# Altium integrated library Texas Instruments Interface 1394.IntLib: 47 symbols (part 1 of 17)
Pins are listed as number, name and electrical type; pins without a type are passive.

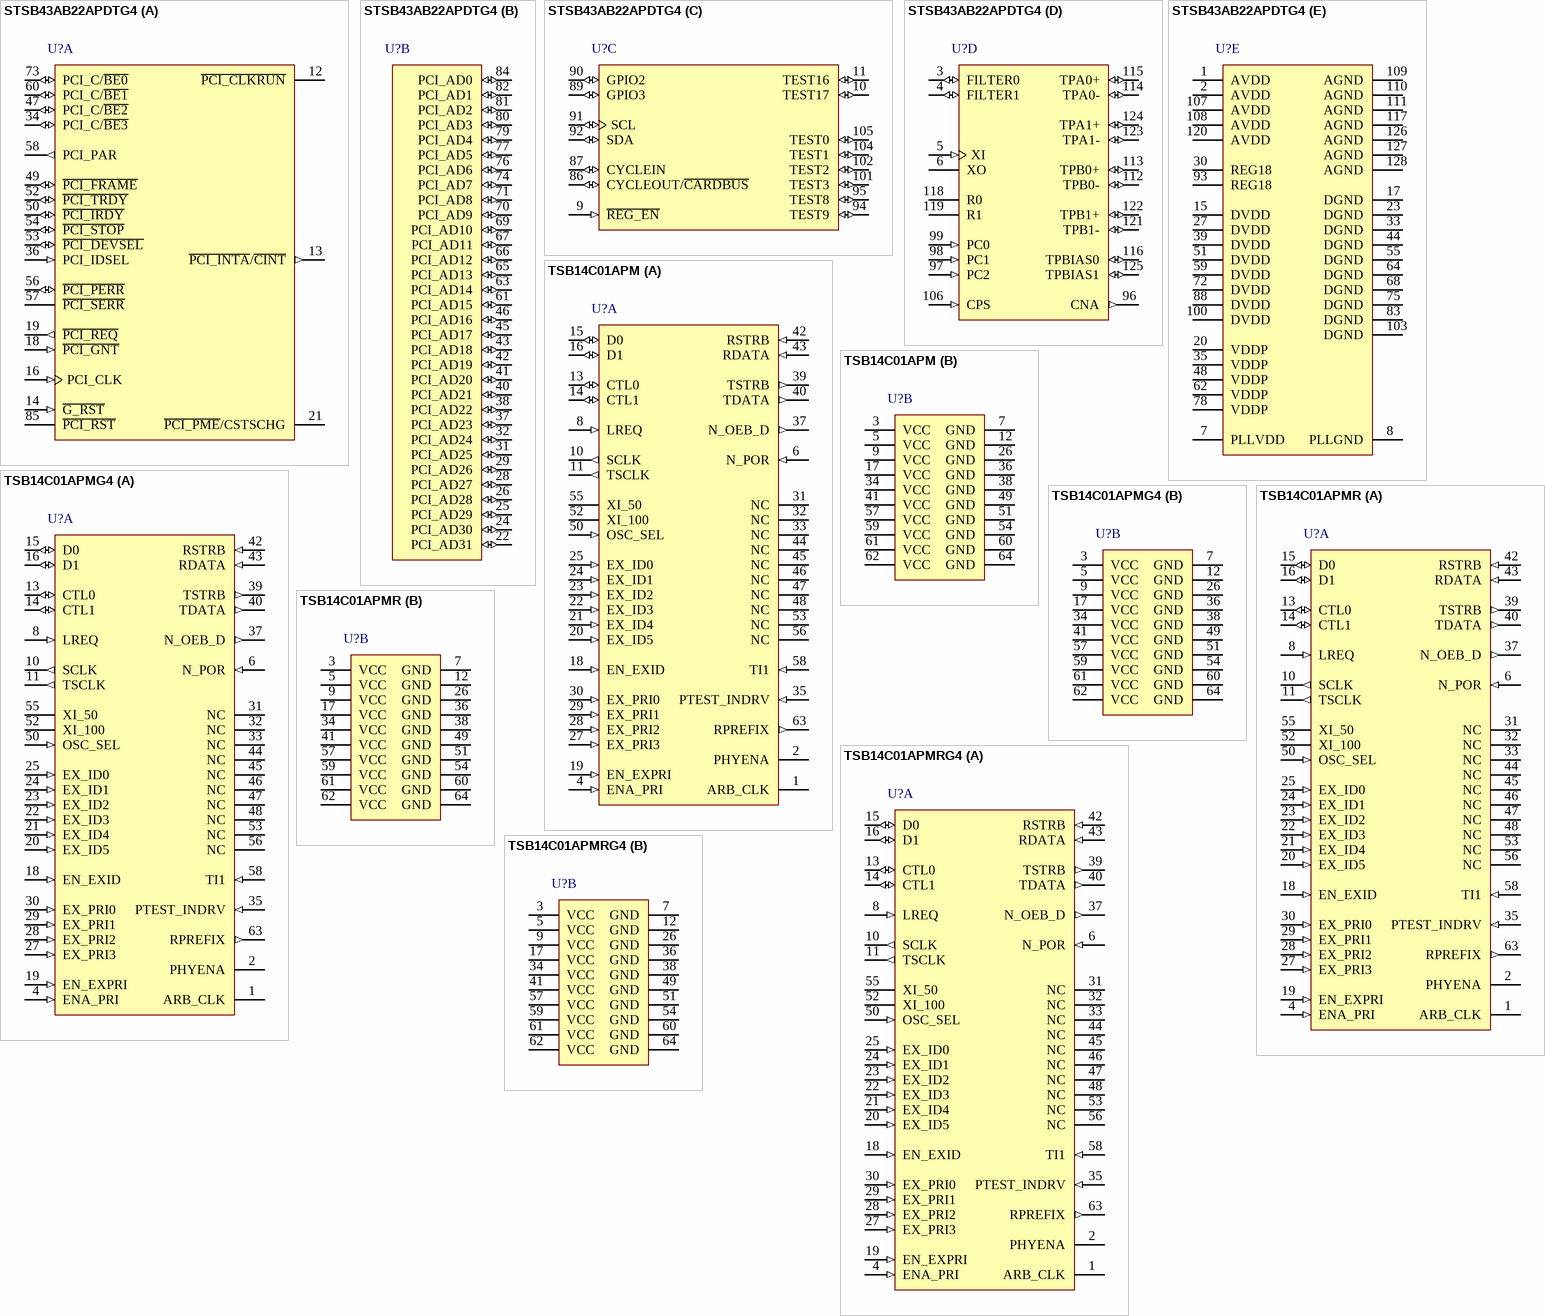
[diagram p0: symbols STSB43AB22APDTG4 to TSB14C01APMRG4]

## STSB43AB22APDTG4
designator U?
Integrated 1394a-2000 OHCI PHY/Link-Layer Controller, 0 to 70 degC, 128-Pin TQFP (PDT); PartNumber: STSB43AB22APDTG4; Manufacturer: Texas Instruments; SubFamily: 1394 Integrated Device; Speed(Max)(Mbps): 400; FIFO(kb): 9; 1394a: TRUE; Rating: Catalog; DatasheetVersion: SLLS520; PackageVersion: revA, Nov-1995; PackageReference: PDT128; PackageDescription: 128-Pin Plastic Quad Flat Pack, 14 x 14 mm Body, 0.4 mm Pitch; Mounting Technology: Surface Mount; Operating Temperature Range(C): 0 to 70; ComponentLink1Description: Datasheet; ComponentLink1URL: http://www.ti.com/general/docs/lit/getliterature.tsp?genericPartNumber=TSB43AB22A&fileType=pdf; ComponentLink2Description: Package Specification; ComponentLink2URL: http://www.ti.com/litv/pdf/mpqf013
footprint TI-PDT128_N (Thin QFP, 128-Leads, Body 14x14mm, Pitch 0.4mm, IPC Medium Density)
footprint TI-PDT128_L (Thin QFP, 128-Leads, Body 14x14mm, Pitch 0.4mm, IPC High Density)
footprint TI-PDT128_M (Thin QFP, 128-Leads, Body 14x14mm, Pitch 0.4mm, IPC Low Density)
part A pins: 12 ~{PCI_CLKRUN} (oc) "Clock run. This terminal provides clock control through the C\L\K\R\U\N\ protocol. [see datasheet]", 13 ~{PCI_INTA}/~{CINT} (out) "Interrupt signal. This output indicates interrupts from the TSB43AB22A device to the host. [see datasheet]", 14 ~{G_RST} (in) "Global power reset. This reset brings all of the TSB43AB22A internal registers to their default states, including those registers not reset by P\C\I\_\R\S\T\. [see datasheet]", 16 PCI_CLK (in) "PCI bus clock. Provides timing for all transactions on the PCI bus. All PCI signals are sampled at the rising edge of PCI_CLK.", 18 ~{PCI_GNT} (in) "PCI bus grant. This signal is driven by the PCI bus arbiter to grant the TSB43AB22A device access to the PCI bus after the current data transaction has completed. [see datasheet]", 19 ~{PCI_REQ} (out) "PCI bus request. Asserted by the TSB43AB22A device to request access to the bus as an initiator. [see datasheet]", 21 ~{PCI_PME}/CSTSCHG (oc) "Power management event or card status change. This terminal indicates wake events to the host. [see datasheet]", 34 PCI_C/~{BE3} (io) "PCI bus commands and byte enables. The command and byte enable signals are multiplexed on the same PCI terminals. [see datasheet]", 36 PCI_IDSEL (in) "Initialization device select. PCI_IDSEL selects the TSB43AB22A device during configuration space accesses. [see datasheet]", 47 PCI_C/~{BE2} (io) "PCI bus commands and byte enables. The command and byte enable signals are multiplexed on the same PCI terminals. [see datasheet]", 49 ~{PCI_FRAME} (io) "PCI cycle frame. This signal is driven by the initiator of a PCI bus cycle. [see datasheet]", 50 ~{PCI_IRDY} (io) "PCI initiator ready. P\C\I\_\I\R\D\Y\ indicates the ability of the PCI bus initiator to complete the current data phase of the transaction. [see datasheet]", 52 ~{PCI_TRDY} (io) "PCI target ready. P\C\I\_\T\R\D\Y\ indicates the ability of the PCI bus target to complete the current data phase of the transaction. [see datasheet]", 53 ~{PCI_DEVSEL} (io) "PCI device select. The TSB43AB22A device asserts this signal to claim a PCI cycle as the target device. [see datasheet]", 54 ~{PCI_STOP} (io) "PCI cycle stop signal. This signal is driven by a PCI target to request the initiator to stop the current PCI bus transaction. [see datasheet]", 56 ~{PCI_PERR} (io) "PCI parity error indicator. [see datasheet]", 57 ~{PCI_SERR} (oc) "PCI system error. When bit 8 (SERR_ENB) in the command register at offset 04h in the PCI configuration space (see Section 3. [see datasheet]", 58 PCI_PAR (out) "PCI parity. In all PCI bus read and write cycles, the TSB43AB22A device calculates even parity across the PCI_AD and PCI_C/B\E\ buses. [see datasheet]", 60 PCI_C/~{BE1} (io) "PCI bus commands and byte enables. The command and byte enable signals are multiplexed on the same PCI terminals. [see datasheet]", 73 PCI_C/~{BE0} (io) "PCI bus commands and byte enables. The command and byte enable signals are multiplexed on the same PCI terminals. [see datasheet]", 85 ~{PCI_RST} (hiz) "PCI reset. [see datasheet]"
part B pins: 22 PCI_AD31 (io) "PCI address/data bus. These signals make up the multiplexed PCI address and data bus on the PCI interface. [see datasheet]", 24 PCI_AD30 (io) "PCI address/data bus. These signals make up the multiplexed PCI address and data bus on the PCI interface. [see datasheet]", 25 PCI_AD29 (io) "PCI address/data bus. These signals make up the multiplexed PCI address and data bus on the PCI interface. [see datasheet]", 26 PCI_AD28 (io) "PCI address/data bus. These signals make up the multiplexed PCI address and data bus on the PCI interface. [see datasheet]", 28 PCI_AD27 (io) "PCI address/data bus. These signals make up the multiplexed PCI address and data bus on the PCI interface. [see datasheet]", 29 PCI_AD26 (io) "PCI address/data bus. These signals make up the multiplexed PCI address and data bus on the PCI interface. [see datasheet]", 31 PCI_AD25 (io) "PCI address/data bus. These signals make up the multiplexed PCI address and data bus on the PCI interface. [see datasheet]", 32 PCI_AD24 (io) "PCI address/data bus. These signals make up the multiplexed PCI address and data bus on the PCI interface. [see datasheet]", 37 PCI_AD23 (io) "PCI address/data bus. These signals make up the multiplexed PCI address and data bus on the PCI interface. [see datasheet]", 38 PCI_AD22 (io) "PCI address/data bus. These signals make up the multiplexed PCI address and data bus on the PCI interface. [see datasheet]", 40 PCI_AD21 (io) "PCI address/data bus. These signals make up the multiplexed PCI address and data bus on the PCI interface. [see datasheet]", 41 PCI_AD20 (io) "PCI address/data bus. These signals make up the multiplexed PCI address and data bus on the PCI interface. [see datasheet]", 42 PCI_AD19 (io) "PCI address/data bus. These signals make up the multiplexed PCI address and data bus on the PCI interface. [see datasheet]", 43 PCI_AD18 (io) "PCI address/data bus. These signals make up the multiplexed PCI address and data bus on the PCI interface. [see datasheet]", 45 PCI_AD17 (io) "PCI address/data bus. These signals make up the multiplexed PCI address and data bus on the PCI interface. [see datasheet]", 46 PCI_AD16 (io) "PCI address/data bus. These signals make up the multiplexed PCI address and data bus on the PCI interface. [see datasheet]", 61 PCI_AD15 (io) "PCI address/data bus. These signals make up the multiplexed PCI address and data bus on the PCI interface. [see datasheet]", 63 PCI_AD14 (io) "PCI address/data bus. These signals make up the multiplexed PCI address and data bus on the PCI interface. [see datasheet]", 65 PCI_AD13 (io) "PCI address/data bus. These signals make up the multiplexed PCI address and data bus on the PCI interface. [see datasheet]", 66 PCI_AD12 (io) "PCI address/data bus. These signals make up the multiplexed PCI address and data bus on the PCI interface. [see datasheet]", 67 PCI_AD11 (io) "PCI address/data bus. These signals make up the multiplexed PCI address and data bus on the PCI interface. [see datasheet]", 69 PCI_AD10 (io) "PCI address/data bus. These signals make up the multiplexed PCI address and data bus on the PCI interface. [see datasheet]", 70 PCI_AD9 (io) "PCI address/data bus. These signals make up the multiplexed PCI address and data bus on the PCI interface. [see datasheet]", 71 PCI_AD8 (io) "PCI address/data bus. These signals make up the multiplexed PCI address and data bus on the PCI interface. [see datasheet]", 74 PCI_AD7 (io) "PCI address/data bus. These signals make up the multiplexed PCI address and data bus on the PCI interface. [see datasheet]", 76 PCI_AD6 (io) "PCI address/data bus. These signals make up the multiplexed PCI address and data bus on the PCI interface. [see datasheet]", 77 PCI_AD5 (io) "PCI address/data bus. These signals make up the multiplexed PCI address and data bus on the PCI interface. [see datasheet]", 79 PCI_AD4 (io) "PCI address/data bus. These signals make up the multiplexed PCI address and data bus on the PCI interface. [see datasheet]", 80 PCI_AD3 (io) "PCI address/data bus. These signals make up the multiplexed PCI address and data bus on the PCI interface. [see datasheet]", 81 PCI_AD2 (io) "PCI address/data bus. These signals make up the multiplexed PCI address and data bus on the PCI interface. [see datasheet]", 82 PCI_AD1 (io) "PCI address/data bus. These signals make up the multiplexed PCI address and data bus on the PCI interface. [see datasheet]", 84 PCI_AD0 (io) "PCI address/data bus. These signals make up the multiplexed PCI address and data bus on the PCI interface. [see datasheet]"
part C pins: 9 ~{REG_EN} (in) "Regulator enable. This terminal must be tied to ground to enable the internal voltage regulator. When using a single 3. [see datasheet]", 10 TEST17 (io) "Terminals TEST[9, 8, 3, 2, 1, 0] are used for factory test of the TSB43AB22A device and must be connected to ground for normal operation. Terminal TEST[17:16] must be pulled to VDD. [see datasheet]", 11 TEST16 (io) "Terminals TEST[9, 8, 3, 2, 1, 0] are used for factory test of the TSB43AB22A device and must be connected to ground for normal operation. Terminal TEST[17:16] must be pulled to VDD. [see datasheet]", 86 CYCLEOUT/~{CARDBUS} (io) "This terminal is sampled when G\_\R\S\T\ is asserted and is used to select between PC Card and non-PC Card implementations. [see datasheet]", 87 CYCLEIN (io) "The CYCLEIN terminal allows an external 8-kHz clock to be used as a cycle timer for synchronization with other system devices. [see datasheet]", 89 GPIO3 (io) "General-purpose I/O [3]. This terminal defaults as an input and if it is not implemented, it is recommended that it be pulled low to ground with a 220-ohm resistor.", 90 GPIO2 (io) "General-purpose I/O [2]. This terminal defaults as an input and if it is not implemented, it is recommended that it be pulled low to ground with a 220-ohm resistor.", 91 SCL (io) "Serial clock. This terminal provides the serial clock signaling and is implemented as open-drain. [see datasheet]", 92 SDA (io) "Serial data. At P\C\I\_\R\S\T\, the SDA signal is sampled to determine if a two-wire serial ROM is present. [see datasheet]", 94 TEST9 (io) "Terminals TEST[9, 8, 3, 2, 1, 0] are used for factory test of the TSB43AB22A device and must be connected to ground for normal operation. Terminal TEST[17:16] must be pulled to VDD. [see datasheet]", 95 TEST8 (io) "Terminals TEST[9, 8, 3, 2, 1, 0] are used for factory test of the TSB43AB22A device and must be connected to ground for normal operation. Terminal TEST[17:16] must be pulled to VDD. [see datasheet]", 101 TEST3 (io) "Terminals TEST[9, 8, 3, 2, 1, 0] are used for factory test of the TSB43AB22A device and must be connected to ground for normal operation. Terminal TEST[17:16] must be pulled to VDD. [see datasheet]", 102 TEST2 (io) "Terminals TEST[9, 8, 3, 2, 1, 0] are used for factory test of the TSB43AB22A device and must be connected to ground for normal operation. Terminal TEST[17:16] must be pulled to VDD. [see datasheet]", 104 TEST1 (io) "Terminals TEST[9, 8, 3, 2, 1, 0] are used for factory test of the TSB43AB22A device and must be connected to ground for normal operation. Terminal TEST[17:16] must be pulled to VDD. [see datasheet]", 105 TEST0 (io) "Terminals TEST[9, 8, 3, 2, 1, 0] are used for factory test of the TSB43AB22A device and must be connected to ground for normal operation. Terminal TEST[17:16] must be pulled to VDD. [see datasheet]"
part D pins: 3 FILTER0 (io) "PLL filter terminals. [see datasheet]", 4 FILTER1 (io) "PLL filter terminals. [see datasheet]", 5 XI (in) "Crystal oscillator inputs. These pins connect to a 24.576-MHz parallel resonant fundamental mode crystal. [see datasheet]", 6 XO "Crystal oscillator inputs. These pins connect to a 24.576-MHz parallel resonant fundamental mode crystal. [see datasheet]", 96 CNA (out) "Cable not active. This terminal is asserted high when there are no ports receiving incoming bias voltage. [see datasheet]", 97 PC2 (in) "Power class programming inputs. On hardware reset, these inputs set the default value of the power class indicated during self-ID. [see datasheet]", 98 PC1 (in) "Power class programming inputs. On hardware reset, these inputs set the default value of the power class indicated during self-ID. [see datasheet]", 99 PC0 (in) "Power class programming inputs. On hardware reset, these inputs set the default value of the power class indicated during self-ID. [see datasheet]", 106 CPS (in) "Cable power status input. This terminal is normally connected to cable power through a 400-kohm resistor. [see datasheet]", 112 TPB0- (io) "Twisted-pair cable B differential signal terminals. [see datasheet]", 113 TPB0+ (io) "Twisted-pair cable B differential signal terminals. [see datasheet]", 114 TPA0- (io) "Twisted-pair cable A differential signal terminals. [see datasheet]", 115 TPA0+ (io) "Twisted-pair cable A differential signal terminals. [see datasheet]", 116 TPBIAS0 (io) "Twisted-pair bias output. This provides the 1. [see datasheet]", 118 R0 "Current-setting resistor terminals. These terminals are connected to an external resistance to set the internal operating currents and cable driver output currents. A resistance of 6. [see datasheet]", 119 R1 "Current-setting resistor terminals. These terminals are connected to an external resistance to set the internal operating currents and cable driver output currents. A resistance of 6. [see datasheet]", 121 TPB1- (io) "Twisted-pair cable B differential signal terminals. [see datasheet]", 122 TPB1+ (io) "Twisted-pair cable B differential signal terminals. [see datasheet]", 123 TPA1- (io) "Twisted-pair cable A differential signal terminals. [see datasheet]", 124 TPA1+ (io) "Twisted-pair cable A differential signal terminals. [see datasheet]", 125 TPBIAS1 (io) "Twisted-pair bias output. This provides the 1. [see datasheet]"
part E pins: 1 AVDD (power) "Analog circuit power terminals. A parallel combination of high frequency decoupling capacitors near each terminal is suggested, such as 0.1 uF and 0.001 uF. Lower frequency 10-uF filtering capacitors are also recommended. These supply terminals are separ", 2 AVDD (power) "Analog circuit power terminals. A parallel combination of high frequency decoupling capacitors near each terminal is suggested, such as 0.1 uF and 0.001 uF. Lower frequency 10-uF filtering capacitors are also recommended. These supply terminals are separ", 7 PLLVDD (power) "PLL circuit power terminal. A parallel combination of high frequency decoupling capacitors near the terminal is suggested, such as 0.1 uF and 0.001 uF. Lower frequency 10-uF filtering capacitors are also recommended. This supply terminal is separated fro", 8 PLLGND (power) "PLL circuit ground terminal. This terminal must be tied to the low-impedance circuit board ground plane.", 15 DVDD (power) "Digital circuit power terminals. A parallel combination of high frequency decoupling capacitors near each DVDD terminal is suggested, such as 0.1 uF and 0.001 uF. Lower frequency 10-µF filtering capacitors are also recommended. These supply terminals are", 17 DGND (power) "Digital circuit ground terminals. These terminals must be tied together to the low-impedance circuit board ground plane.", 20 VDDP (power) "PCI signaling clamp voltage power input. PCI signals are clamped per the PCI Local Bus Specification. In addition, if a 5-V ROM is used, the VDDP must be connected to 5 V.", 23 DGND (power) "Digital circuit ground terminals. These terminals must be tied together to the low-impedance circuit board ground plane.", 27 DVDD (power) "Digital circuit power terminals. A parallel combination of high frequency decoupling capacitors near each DVDD terminal is suggested, such as 0.1 uF and 0.001 uF. Lower frequency 10-µF filtering capacitors are also recommended. These supply terminals are", 30 REG18 (power) "REG18. 1.8-V power supply for the device core. If the internal voltage regulator is enabled (R\E\G\_\E\N\ is tied low), these terminals must be left unconnected. The internal voltage regulator provides 1.8 V from DVDD. When the internal regulator is disa", 33 DGND (power) "Digital circuit ground terminals. These terminals must be tied together to the low-impedance circuit board ground plane.", 35 VDDP (power) "PCI signaling clamp voltage power input. PCI signals are clamped per the PCI Local Bus Specification. In addition, if a 5-V ROM is used, the VDDP must be connected to 5 V.", 39 DVDD (power) "Digital circuit power terminals. A parallel combination of high frequency decoupling capacitors near each DVDD terminal is suggested, such as 0.1 uF and 0.001 uF. Lower frequency 10-µF filtering capacitors are also recommended. These supply terminals are", 44 DGND (power) "Digital circuit ground terminals. These terminals must be tied together to the low-impedance circuit board ground plane.", 48 VDDP (power) "PCI signaling clamp voltage power input. PCI signals are clamped per the PCI Local Bus Specification. In addition, if a 5-V ROM is used, the VDDP must be connected to 5 V.", 51 DVDD (power) "Digital circuit power terminals. A parallel combination of high frequency decoupling capacitors near each DVDD terminal is suggested, such as 0.1 uF and 0.001 uF. Lower frequency 10-µF filtering capacitors are also recommended. These supply terminals are", 55 DGND (power) "Digital circuit ground terminals. These terminals must be tied together to the low-impedance circuit board ground plane.", 59 DVDD (power) "Digital circuit power terminals. A parallel combination of high frequency decoupling capacitors near each DVDD terminal is suggested, such as 0.1 uF and 0.001 uF. Lower frequency 10-µF filtering capacitors are also recommended. These supply terminals are", 62 VDDP (power) "PCI signaling clamp voltage power input. PCI signals are clamped per the PCI Local Bus Specification. In addition, if a 5-V ROM is used, the VDDP must be connected to 5 V.", 64 DGND (power) "Digital circuit ground terminals. These terminals must be tied together to the low-impedance circuit board ground plane.", 68 DGND (power) "Digital circuit ground terminals. These terminals must be tied together to the low-impedance circuit board ground plane.", 72 DVDD (power) "Digital circuit power terminals. A parallel combination of high frequency decoupling capacitors near each DVDD terminal is suggested, such as 0.1 uF and 0.001 uF. Lower frequency 10-µF filtering capacitors are also recommended. These supply terminals are", 75 DGND (power) "Digital circuit ground terminals. These terminals must be tied together to the low-impedance circuit board ground plane.", 78 VDDP (power) "PCI signaling clamp voltage power input. PCI signals are clamped per the PCI Local Bus Specification. In addition, if a 5-V ROM is used, the VDDP must be connected to 5 V.", 83 DGND (power) "Digital circuit ground terminals. These terminals must be tied together to the low-impedance circuit board ground plane.", 88 DVDD (power) "Digital circuit power terminals. A parallel combination of high frequency decoupling capacitors near each DVDD terminal is suggested, such as 0.1 uF and 0.001 uF. Lower frequency 10-µF filtering capacitors are also recommended. These supply terminals are", 93 REG18 (power) "REG18. 1.8-V power supply for the device core. If the internal voltage regulator is enabled (R\E\G\_\E\N\ is tied low), these terminals must be left unconnected. The internal voltage regulator provides 1.8 V from DVDD. When the internal regulator is disa", 100 DVDD (power) "Digital circuit power terminals. A parallel combination of high frequency decoupling capacitors near each DVDD terminal is suggested, such as 0.1 uF and 0.001 uF. Lower frequency 10-µF filtering capacitors are also recommended. These supply terminals are", 103 DGND (power) "Digital circuit ground terminals. These terminals must be tied together to the low-impedance circuit board ground plane.", 107 AVDD (power) "Analog circuit power terminals. A parallel combination of high frequency decoupling capacitors near each terminal is suggested, such as 0.1 uF and 0.001 uF. Lower frequency 10-uF filtering capacitors are also recommended. These supply terminals are separ", 108 AVDD (power) "Analog circuit power terminals. A parallel combination of high frequency decoupling capacitors near each terminal is suggested, such as 0.1 uF and 0.001 uF. Lower frequency 10-uF filtering capacitors are also recommended. These supply terminals are separ", 109 AGND (power) "Analog circuit ground terminals. These terminals must be tied together to the low-impedance circuit board ground plane", 110 AGND (power) "Analog circuit ground terminals. These terminals must be tied together to the low-impedance circuit board ground plane", 111 AGND (power) "Analog circuit ground terminals. These terminals must be tied together to the low-impedance circuit board ground plane", 117 AGND (power) "Analog circuit ground terminals. These terminals must be tied together to the low-impedance circuit board ground plane.", 120 AVDD (power) "Analog circuit power terminals. A parallel combination of high frequency decoupling capacitors near each terminal is suggested, such as 0.1 uF and 0.001 uF. Lower frequency 10-uF filtering capacitors are also recommended. These supply terminals are separ", 126 AGND (power) "Analog circuit ground terminals. These terminals must be tied together to the low-impedance circuit board ground plane.", 127 AGND (power) "Analog circuit ground terminals. These terminals must be tied together to the low-impedance circuit board ground plane.", 128 AGND (power) "Analog circuit ground terminals. These terminals must be tied together to the low-impedance circuit board ground plane."

## TSB14C01APM
designator U?
100 Mbps IEEE 1394-1995, 5V, 1-Port, 50 / 100Mbps Backplane Physical Layer Controller, 5V, 0 to 70 degC, 64-Pin LQFP (PM), Green (RoHS & no Sb/Br); PartNumber: TSB14C01APM; Manufacturer: Texas Instruments; SubFamily: 1394 Physical Layer Controller; Speed(Max)(Mbps): 100; Ports: 1; Supply Voltage(s)(V): 5; 1394: True; Rating: Catalog; DatasheetVersion: SGLS107A; PackageVersion: Dec-1996; PackageReference: PM64; PackageDescription: 64-Pin Thin Quad Flat Pack 0.5 mm Pitch; Mounting Technology: Surface Mount; Code_JEDEC: MS-026; ComponentLink1Description: Datasheet; ComponentLink1URL: http://media.digikey.com/pdf/Data%20Sheets/Texas%20Instruments%20PDFs/TSB14C01A.pdf; ComponentLink2Description: Package Specification; ComponentLink2URL: http://www.ti.com/lit/ml/mtqf008a/mtqf008a.pdf
footprint PM64_N (Thin QFP, 64-Leads, Body 10x10mm, Pitch 0.5mm, IPC Medium Density)
footprint PM64_L (Thin QFP, 64-Leads, Body 10x10mm, Pitch 0.5mm, IPC High Density)
footprint PM64_M (Thin QFP, 64-Leads, Body 10x10mm, Pitch 0.5mm, IPC Low Density)
part A pins: 1 ARB_CLK (hiz) "Arbitration clock. ARB_CLK is the clock used for arbitration. ARB_CLK is for test and debug. It can be put into a high-impedance state by PTEST_INDRV. [see datasheet]", 2 PHYENA (hiz) "Phy enable. When the phy is driving it is low, PHYENA is the control to the CTL0, CTL1, D0, and D1 drivers. PHYENA is for test and debug. [see datasheet]", 4 ENA_PRI (in) "Enable priority. ENA_PRI is tied low to enable the 7-bit bus request. See Table 1 for more information.", 6 N_POR (in) "Logic reset input . Forcing N_POR low causes a reset condition and resets the internal logic to the reset start state.", 8 LREQ (in) "Link request input. LREQ is an input from the link used by the link to signal the TSB14C01A of a request to perform some service.", 10 SCLK (out) "System clock output. A 49.152-MHz or 24.576-MHz clock signal synchronized with the data transfers, and provided to the link.", 11 TSCLK (out) "System clock output. A 49.152-MHz or 24.576-MHz clock signal that is 180 degrees out of phase with SCLK; it is available if needed.", 13 CTL0 (io) "Control I/O. These are bidirectional signals that communicate between the TSB14C01A and the link that controls passage of information between the two devices.", 14 CTL1 (io) "Control I/O. These are bidirectional signals that communicate between the TSB14C01A and the link that controls passage of information between the two devices.", 15 D0 (io) "Data I/O. These are bidirectional information signals that communicate between the TSB14C01A and the link layer.", 16 D1 (io) "Data I/O. These are bidirectional information signals that communicate between the TSB14C01A and the link layer.", 18 EN_EXID (in) "Enable external ID. When EN_EXID is asserted high, the ID for this node is set externally by EX_ID. [see datasheet]", 19 EN_EXPRI (in) "Enable external priority. When EN_EXPRI is asserted high (external priority enabled) the priority level for this node is set externally (see Table 1). [see datasheet]", 20 EX_ID5 (in) "External ID. The ID for this node is determined by the value on the EX_ID terminals. Bit 0 is the MSB.", 21 EX_ID4 (in) "External ID. The ID for this node is determined by the value on the EX_ID terminals. Bit 0 is the MSB.", 22 EX_ID3 (in) "External ID. The ID for this node is determined by the value on the EX_ID terminals. Bit 0 is the MSB.", 23 EX_ID2 (in) "External ID. The ID for this node is determined by the value on the EX_ID terminals. Bit 0 is the MSB.", 24 EX_ID1 (in) "External ID. The ID for this node is determined by the value on the EX_ID terminals. Bit 0 is the MSB.", 25 EX_ID0 (in) "External ID. The ID for this node is determined by the value on the EX_ID terminals. Bit 0 is the MSB.", 27 EX_PRI3 (in) "External priority. The priority for this node is determined by the values on the EX_PRI terminals. See Table 1 for more information.", 28 EX_PRI2 (in) "External priority. The priority for this node is determined by the values on the EX_PRI terminals. See Table 1 for more information.", 29 EX_PRI1 (in) "External priority. The priority for this node is determined by the values on the EX_PRI terminals. See Table 1 for more information.", 30 EX_PRI0 (in) "External priority. The priority for this node is determined by the values on the EX_PRI terminals. See Table 1 for more information.", 31 NC "Not connected.These terminals must be left floating.", 32 NC "Not connected.These terminals must be left floating.", 33 NC "Not connected.These terminals must be left floating.", 35 PTEST_INDRV (in) "Test output enable. PTEST_INDRV enables/disables the drivers to the test terminals ARB_CLK, PHYENA, and RPREFIX. [see datasheet]", 37 N_OEB_D (out) "External driver enable. N_OEB_D is a negative active signal that enables the external driver for TDATA and TSTRB.", 39 TSTRB (out) "Transmit strobe.TSTRB encodes transmit data.", 40 TDATA (out) "Transmit data.Data to be transmitted is serialized on TDATA.", 42 RSTRB (in) "Receive strobe.RSTRB decodes the received data.", 43 RDATA (in) "Receive data.Incoming data is received at the data rate.", 44 NC "Not connected.These terminals must be left floating.", 45 NC "Not connected.These terminals must be left floating.", 46 NC "Not connected.These terminals must be left floating.", 47 NC "Not connected.These terminals must be left floating.", 48 NC "Not connected.These terminals must be left floating.", 50 OSC_SEL (in) "Select clock frequency. OSC_SEL should be pulled up to VCC when the operating frequency is 50 MHz. When the operating frequency is 100 MHz then it should be pulled to ground. [see datasheet]", 52 XI_100 "External oscillator input. An external 98.304-MHz oscillator can drive the TSB14C01A.", 53 NC "Not connected.These terminals must be left floating.", 55 XI_50 "External oscillator input. An external 49.152-MHz oscillator can drive the TSB14C01A.", 56 NC "Not connected.These terminals must be left floating.", 58 TI1 (in) "Test input 1. TI1 is used for test purposes only and should be tied to ground for normal operation.", 63 RPREFIX (out) "Receiver prefix. When asserted high (enabled), RPREFIX alerts the receiver of an incoming packet. RPREFIX is for test and debug and is not used in normal operation."
part B pins: 3 VCC (power) "Circuit power", 5 VCC (power) "Circuit power", 7 GND (power) "Circuit ground", 9 VCC (power) "Circuit power", 12 GND (power) "Circuit ground", 17 VCC (power) "Circuit power", 26 GND (power) "Circuit ground", 34 VCC (power) "Circuit power", 36 GND (power) "Circuit ground", 38 GND (power) "Circuit ground", 41 VCC (power) "Circuit power", 49 GND (power) "Circuit ground", 51 GND (power) "Circuit ground", 54 GND (power) "Circuit ground", 57 VCC (power) "Circuit power", 59 VCC (power) "Circuit power", 60 GND (power) "Circuit ground", 61 VCC (power) "Circuit power", 62 VCC (power) "Circuit power", 64 GND (power) "Circuit ground"

## TSB14C01APMG4
designator U?
100 Mbps IEEE 1394-1995, 5V, 1-Port, 50 / 100Mbps Backplane Physical Layer Controller, 5V, 0 to 70 degC, 64-Pin LQFP (PM), Green (RoHS & no Sb/Br); PartNumber: TSB14C01APMG4; Manufacturer: Texas Instruments; SubFamily: 1394 Physical Layer Controller; Speed(Max)(Mbps): 100; Ports: 1; Supply Voltage(s)(V): 5; 1394: True; Rating: Catalog; DatasheetVersion: SGLS107A; PackageVersion: Dec-1996; PackageReference: PM64; PackageDescription: 64-Pin Thin Quad Flat Pack 0.5 mm Pitch; Mounting Technology: Surface Mount; Code_JEDEC: MS-026; ComponentLink1Description: Datasheet; ComponentLink1URL: http://media.digikey.com/pdf/Data%20Sheets/Texas%20Instruments%20PDFs/TSB14C01A.pdf; ComponentLink2Description: Package Specification; ComponentLink2URL: http://www.ti.com/lit/ml/mtqf008a/mtqf008a.pdf
footprint PM64_N (Thin QFP, 64-Leads, Body 10x10mm, Pitch 0.5mm, IPC Medium Density)
footprint PM64_L (Thin QFP, 64-Leads, Body 10x10mm, Pitch 0.5mm, IPC High Density)
footprint PM64_M (Thin QFP, 64-Leads, Body 10x10mm, Pitch 0.5mm, IPC Low Density)
part A pins: 1 ARB_CLK (hiz) "Arbitration clock. ARB_CLK is the clock used for arbitration. ARB_CLK is for test and debug. It can be put into a high-impedance state by PTEST_INDRV. [see datasheet]", 2 PHYENA (hiz) "Phy enable. When the phy is driving it is low, PHYENA is the control to the CTL0, CTL1, D0, and D1 drivers. PHYENA is for test and debug. [see datasheet]", 4 ENA_PRI (in) "Enable priority. ENA_PRI is tied low to enable the 7-bit bus request. See Table 1 for more information.", 6 N_POR (in) "Logic reset input . Forcing N_POR low causes a reset condition and resets the internal logic to the reset start state.", 8 LREQ (in) "Link request input. LREQ is an input from the link used by the link to signal the TSB14C01A of a request to perform some service.", 10 SCLK (out) "System clock output. A 49.152-MHz or 24.576-MHz clock signal synchronized with the data transfers, and provided to the link.", 11 TSCLK (out) "System clock output. A 49.152-MHz or 24.576-MHz clock signal that is 180 degrees out of phase with SCLK; it is available if needed.", 13 CTL0 (io) "Control I/O. These are bidirectional signals that communicate between the TSB14C01A and the link that controls passage of information between the two devices.", 14 CTL1 (io) "Control I/O. These are bidirectional signals that communicate between the TSB14C01A and the link that controls passage of information between the two devices.", 15 D0 (io) "Data I/O. These are bidirectional information signals that communicate between the TSB14C01A and the link layer.", 16 D1 (io) "Data I/O. These are bidirectional information signals that communicate between the TSB14C01A and the link layer.", 18 EN_EXID (in) "Enable external ID. When EN_EXID is asserted high, the ID for this node is set externally by EX_ID. [see datasheet]", 19 EN_EXPRI (in) "Enable external priority. When EN_EXPRI is asserted high (external priority enabled) the priority level for this node is set externally (see Table 1). [see datasheet]", 20 EX_ID5 (in) "External ID. The ID for this node is determined by the value on the EX_ID terminals. Bit 0 is the MSB.", 21 EX_ID4 (in) "External ID. The ID for this node is determined by the value on the EX_ID terminals. Bit 0 is the MSB.", 22 EX_ID3 (in) "External ID. The ID for this node is determined by the value on the EX_ID terminals. Bit 0 is the MSB.", 23 EX_ID2 (in) "External ID. The ID for this node is determined by the value on the EX_ID terminals. Bit 0 is the MSB.", 24 EX_ID1 (in) "External ID. The ID for this node is determined by the value on the EX_ID terminals. Bit 0 is the MSB.", 25 EX_ID0 (in) "External ID. The ID for this node is determined by the value on the EX_ID terminals. Bit 0 is the MSB.", 27 EX_PRI3 (in) "External priority. The priority for this node is determined by the values on the EX_PRI terminals. See Table 1 for more information.", 28 EX_PRI2 (in) "External priority. The priority for this node is determined by the values on the EX_PRI terminals. See Table 1 for more information.", 29 EX_PRI1 (in) "External priority. The priority for this node is determined by the values on the EX_PRI terminals. See Table 1 for more information.", 30 EX_PRI0 (in) "External priority. The priority for this node is determined by the values on the EX_PRI terminals. See Table 1 for more information.", 31 NC "Not connected.These terminals must be left floating.", 32 NC "Not connected.These terminals must be left floating.", 33 NC "Not connected.These terminals must be left floating.", 35 PTEST_INDRV (in) "Test output enable. PTEST_INDRV enables/disables the drivers to the test terminals ARB_CLK, PHYENA, and RPREFIX. [see datasheet]", 37 N_OEB_D (out) "External driver enable. N_OEB_D is a negative active signal that enables the external driver for TDATA and TSTRB.", 39 TSTRB (out) "Transmit strobe.TSTRB encodes transmit data.", 40 TDATA (out) "Transmit data.Data to be transmitted is serialized on TDATA.", 42 RSTRB (in) "Receive strobe.RSTRB decodes the received data.", 43 RDATA (in) "Receive data.Incoming data is received at the data rate.", 44 NC "Not connected.These terminals must be left floating.", 45 NC "Not connected.These terminals must be left floating.", 46 NC "Not connected.These terminals must be left floating.", 47 NC "Not connected.These terminals must be left floating.", 48 NC "Not connected.These terminals must be left floating.", 50 OSC_SEL (in) "Select clock frequency. OSC_SEL should be pulled up to VCC when the operating frequency is 50 MHz. When the operating frequency is 100 MHz then it should be pulled to ground. [see datasheet]", 52 XI_100 "External oscillator input. An external 98.304-MHz oscillator can drive the TSB14C01A.", 53 NC "Not connected.These terminals must be left floating.", 55 XI_50 "External oscillator input. An external 49.152-MHz oscillator can drive the TSB14C01A.", 56 NC "Not connected.These terminals must be left floating.", 58 TI1 (in) "Test input 1. TI1 is used for test purposes only and should be tied to ground for normal operation.", 63 RPREFIX (out) "Receiver prefix. When asserted high (enabled), RPREFIX alerts the receiver of an incoming packet. RPREFIX is for test and debug and is not used in normal operation."
part B pins: 3 VCC (power) "Circuit power", 5 VCC (power) "Circuit power", 7 GND (power) "Circuit ground", 9 VCC (power) "Circuit power", 12 GND (power) "Circuit ground", 17 VCC (power) "Circuit power", 26 GND (power) "Circuit ground", 34 VCC (power) "Circuit power", 36 GND (power) "Circuit ground", 38 GND (power) "Circuit ground", 41 VCC (power) "Circuit power", 49 GND (power) "Circuit ground", 51 GND (power) "Circuit ground", 54 GND (power) "Circuit ground", 57 VCC (power) "Circuit power", 59 VCC (power) "Circuit power", 60 GND (power) "Circuit ground", 61 VCC (power) "Circuit power", 62 VCC (power) "Circuit power", 64 GND (power) "Circuit ground"

## TSB14C01APMR
designator U?
100 Mbps IEEE 1394-1995, 5V, 1-Port, 50 / 100Mbps Backplane Physical Layer Controller, 5V, 64-Pin LQFP (PM), Green (RoHS & no Sb/Br); PartNumber: TSB14C01APMR; Manufacturer: Texas Instruments; SubFamily: 1394 Physical Layer Controller; Speed(Max)(Mbps): 100; Ports: 1; Supply Voltage(s)(V): 5; 1394: True; Rating: Catalog; DatasheetVersion: SGLS107A; PackageVersion: Dec-1996; PackageReference: PM64; PackageDescription: 64-Pin Thin Quad Flat Pack 0.5 mm Pitch; Mounting Technology: Surface Mount; Code_JEDEC: MS-026; ComponentLink1Description: Datasheet; ComponentLink1URL: http://media.digikey.com/pdf/Data%20Sheets/Texas%20Instruments%20PDFs/TSB14C01A.pdf; ComponentLink2Description: Package Specification; ComponentLink2URL: http://www.ti.com/lit/ml/mtqf008a/mtqf008a.pdf
footprint PM64_N (Thin QFP, 64-Leads, Body 10x10mm, Pitch 0.5mm, IPC Medium Density)
footprint PM64_L (Thin QFP, 64-Leads, Body 10x10mm, Pitch 0.5mm, IPC High Density)
footprint PM64_M (Thin QFP, 64-Leads, Body 10x10mm, Pitch 0.5mm, IPC Low Density)
part A pins: 1 ARB_CLK (hiz) "Arbitration clock. ARB_CLK is the clock used for arbitration. ARB_CLK is for test and debug. It can be put into a high-impedance state by PTEST_INDRV. [see datasheet]", 2 PHYENA (hiz) "Phy enable. When the phy is driving it is low, PHYENA is the control to the CTL0, CTL1, D0, and D1 drivers. PHYENA is for test and debug. [see datasheet]", 4 ENA_PRI (in) "Enable priority. ENA_PRI is tied low to enable the 7-bit bus request. See Table 1 for more information.", 6 N_POR (in) "Logic reset input . Forcing N_POR low causes a reset condition and resets the internal logic to the reset start state.", 8 LREQ (in) "Link request input. LREQ is an input from the link used by the link to signal the TSB14C01A of a request to perform some service.", 10 SCLK (out) "System clock output. A 49.152-MHz or 24.576-MHz clock signal synchronized with the data transfers, and provided to the link.", 11 TSCLK (out) "System clock output. A 49.152-MHz or 24.576-MHz clock signal that is 180 degrees out of phase with SCLK; it is available if needed.", 13 CTL0 (io) "Control I/O. These are bidirectional signals that communicate between the TSB14C01A and the link that controls passage of information between the two devices.", 14 CTL1 (io) "Control I/O. These are bidirectional signals that communicate between the TSB14C01A and the link that controls passage of information between the two devices.", 15 D0 (io) "Data I/O. These are bidirectional information signals that communicate between the TSB14C01A and the link layer.", 16 D1 (io) "Data I/O. These are bidirectional information signals that communicate between the TSB14C01A and the link layer.", 18 EN_EXID (in) "Enable external ID. When EN_EXID is asserted high, the ID for this node is set externally by EX_ID. [see datasheet]", 19 EN_EXPRI (in) "Enable external priority. When EN_EXPRI is asserted high (external priority enabled) the priority level for this node is set externally (see Table 1). [see datasheet]", 20 EX_ID5 (in) "External ID. The ID for this node is determined by the value on the EX_ID terminals. Bit 0 is the MSB.", 21 EX_ID4 (in) "External ID. The ID for this node is determined by the value on the EX_ID terminals. Bit 0 is the MSB.", 22 EX_ID3 (in) "External ID. The ID for this node is determined by the value on the EX_ID terminals. Bit 0 is the MSB.", 23 EX_ID2 (in) "External ID. The ID for this node is determined by the value on the EX_ID terminals. Bit 0 is the MSB.", 24 EX_ID1 (in) "External ID. The ID for this node is determined by the value on the EX_ID terminals. Bit 0 is the MSB.", 25 EX_ID0 (in) "External ID. The ID for this node is determined by the value on the EX_ID terminals. Bit 0 is the MSB.", 27 EX_PRI3 (in) "External priority. The priority for this node is determined by the values on the EX_PRI terminals. See Table 1 for more information.", 28 EX_PRI2 (in) "External priority. The priority for this node is determined by the values on the EX_PRI terminals. See Table 1 for more information.", 29 EX_PRI1 (in) "External priority. The priority for this node is determined by the values on the EX_PRI terminals. See Table 1 for more information.", 30 EX_PRI0 (in) "External priority. The priority for this node is determined by the values on the EX_PRI terminals. See Table 1 for more information.", 31 NC "Not connected.These terminals must be left floating.", 32 NC "Not connected.These terminals must be left floating.", 33 NC "Not connected.These terminals must be left floating.", 35 PTEST_INDRV (in) "Test output enable. PTEST_INDRV enables/disables the drivers to the test terminals ARB_CLK, PHYENA, and RPREFIX. [see datasheet]", 37 N_OEB_D (out) "External driver enable. N_OEB_D is a negative active signal that enables the external driver for TDATA and TSTRB.", 39 TSTRB (out) "Transmit strobe.TSTRB encodes transmit data.", 40 TDATA (out) "Transmit data.Data to be transmitted is serialized on TDATA.", 42 RSTRB (in) "Receive strobe.RSTRB decodes the received data.", 43 RDATA (in) "Receive data.Incoming data is received at the data rate.", 44 NC "Not connected.These terminals must be left floating.", 45 NC "Not connected.These terminals must be left floating.", 46 NC "Not connected.These terminals must be left floating.", 47 NC "Not connected.These terminals must be left floating.", 48 NC "Not connected.These terminals must be left floating.", 50 OSC_SEL (in) "Select clock frequency. OSC_SEL should be pulled up to VCC when the operating frequency is 50 MHz. When the operating frequency is 100 MHz then it should be pulled to ground. [see datasheet]", 52 XI_100 "External oscillator input. An external 98.304-MHz oscillator can drive the TSB14C01A.", 53 NC "Not connected.These terminals must be left floating.", 55 XI_50 "External oscillator input. An external 49.152-MHz oscillator can drive the TSB14C01A.", 56 NC "Not connected.These terminals must be left floating.", 58 TI1 (in) "Test input 1. TI1 is used for test purposes only and should be tied to ground for normal operation.", 63 RPREFIX (out) "Receiver prefix. When asserted high (enabled), RPREFIX alerts the receiver of an incoming packet. RPREFIX is for test and debug and is not used in normal operation."
part B pins: 3 VCC (power) "Circuit power", 5 VCC (power) "Circuit power", 7 GND (power) "Circuit ground", 9 VCC (power) "Circuit power", 12 GND (power) "Circuit ground", 17 VCC (power) "Circuit power", 26 GND (power) "Circuit ground", 34 VCC (power) "Circuit power", 36 GND (power) "Circuit ground", 38 GND (power) "Circuit ground", 41 VCC (power) "Circuit power", 49 GND (power) "Circuit ground", 51 GND (power) "Circuit ground", 54 GND (power) "Circuit ground", 57 VCC (power) "Circuit power", 59 VCC (power) "Circuit power", 60 GND (power) "Circuit ground", 61 VCC (power) "Circuit power", 62 VCC (power) "Circuit power", 64 GND (power) "Circuit ground"

## TSB14C01APMRG4
designator U?
100 Mbps IEEE 1394-1995, 5V, 1-Port, 50 / 100Mbps Backplane Physical Layer Controller, 5V, 64-Pin LQFP (PM), Green (RoHS & no Sb/Br); PartNumber: TSB14C01APMRG4; Manufacturer: Texas Instruments; SubFamily: 1394 Physical Layer Controller; Speed(Max)(Mbps): 100; Ports: 1; Supply Voltage(s)(V): 5; 1394: True; Rating: Catalog; DatasheetVersion: SGLS107A; PackageVersion: Dec-1996; PackageReference: PM64; PackageDescription: 64-Pin Thin Quad Flat Pack 0.5 mm Pitch; Mounting Technology: Surface Mount; Code_JEDEC: MS-026; ComponentLink1Description: Datasheet; ComponentLink1URL: http://media.digikey.com/pdf/Data%20Sheets/Texas%20Instruments%20PDFs/TSB14C01A.pdf; ComponentLink2Description: Package Specification; ComponentLink2URL: http://www.ti.com/lit/ml/mtqf008a/mtqf008a.pdf
footprint PM64_N (Thin QFP, 64-Leads, Body 10x10mm, Pitch 0.5mm, IPC Medium Density)
footprint PM64_L (Thin QFP, 64-Leads, Body 10x10mm, Pitch 0.5mm, IPC High Density)
footprint PM64_M (Thin QFP, 64-Leads, Body 10x10mm, Pitch 0.5mm, IPC Low Density)
part A pins: 1 ARB_CLK (hiz) "Arbitration clock. ARB_CLK is the clock used for arbitration. ARB_CLK is for test and debug. It can be put into a high-impedance state by PTEST_INDRV. [see datasheet]", 2 PHYENA (hiz) "Phy enable. When the phy is driving it is low, PHYENA is the control to the CTL0, CTL1, D0, and D1 drivers. PHYENA is for test and debug. [see datasheet]", 4 ENA_PRI (in) "Enable priority. ENA_PRI is tied low to enable the 7-bit bus request. See Table 1 for more information.", 6 N_POR (in) "Logic reset input . Forcing N_POR low causes a reset condition and resets the internal logic to the reset start state.", 8 LREQ (in) "Link request input. LREQ is an input from the link used by the link to signal the TSB14C01A of a request to perform some service.", 10 SCLK (out) "System clock output. A 49.152-MHz or 24.576-MHz clock signal synchronized with the data transfers, and provided to the link.", 11 TSCLK (out) "System clock output. A 49.152-MHz or 24.576-MHz clock signal that is 180 degrees out of phase with SCLK; it is available if needed.", 13 CTL0 (io) "Control I/O. These are bidirectional signals that communicate between the TSB14C01A and the link that controls passage of information between the two devices.", 14 CTL1 (io) "Control I/O. These are bidirectional signals that communicate between the TSB14C01A and the link that controls passage of information between the two devices.", 15 D0 (io) "Data I/O. These are bidirectional information signals that communicate between the TSB14C01A and the link layer.", 16 D1 (io) "Data I/O. These are bidirectional information signals that communicate between the TSB14C01A and the link layer.", 18 EN_EXID (in) "Enable external ID. When EN_EXID is asserted high, the ID for this node is set externally by EX_ID. [see datasheet]", 19 EN_EXPRI (in) "Enable external priority. When EN_EXPRI is asserted high (external priority enabled) the priority level for this node is set externally (see Table 1). [see datasheet]", 20 EX_ID5 (in) "External ID. The ID for this node is determined by the value on the EX_ID terminals. Bit 0 is the MSB.", 21 EX_ID4 (in) "External ID. The ID for this node is determined by the value on the EX_ID terminals. Bit 0 is the MSB.", 22 EX_ID3 (in) "External ID. The ID for this node is determined by the value on the EX_ID terminals. Bit 0 is the MSB.", 23 EX_ID2 (in) "External ID. The ID for this node is determined by the value on the EX_ID terminals. Bit 0 is the MSB.", 24 EX_ID1 (in) "External ID. The ID for this node is determined by the value on the EX_ID terminals. Bit 0 is the MSB.", 25 EX_ID0 (in) "External ID. The ID for this node is determined by the value on the EX_ID terminals. Bit 0 is the MSB.", 27 EX_PRI3 (in) "External priority. The priority for this node is determined by the values on the EX_PRI terminals. See Table 1 for more information.", 28 EX_PRI2 (in) "External priority. The priority for this node is determined by the values on the EX_PRI terminals. See Table 1 for more information.", 29 EX_PRI1 (in) "External priority. The priority for this node is determined by the values on the EX_PRI terminals. See Table 1 for more information.", 30 EX_PRI0 (in) "External priority. The priority for this node is determined by the values on the EX_PRI terminals. See Table 1 for more information.", 31 NC "Not connected.These terminals must be left floating.", 32 NC "Not connected.These terminals must be left floating.", 33 NC "Not connected.These terminals must be left floating.", 35 PTEST_INDRV (in) "Test output enable. PTEST_INDRV enables/disables the drivers to the test terminals ARB_CLK, PHYENA, and RPREFIX. [see datasheet]", 37 N_OEB_D (out) "External driver enable. N_OEB_D is a negative active signal that enables the external driver for TDATA and TSTRB.", 39 TSTRB (out) "Transmit strobe.TSTRB encodes transmit data.", 40 TDATA (out) "Transmit data.Data to be transmitted is serialized on TDATA.", 42 RSTRB (in) "Receive strobe.RSTRB decodes the received data.", 43 RDATA (in) "Receive data.Incoming data is received at the data rate.", 44 NC "Not connected.These terminals must be left floating.", 45 NC "Not connected.These terminals must be left floating.", 46 NC "Not connected.These terminals must be left floating.", 47 NC "Not connected.These terminals must be left floating.", 48 NC "Not connected.These terminals must be left floating.", 50 OSC_SEL (in) "Select clock frequency. OSC_SEL should be pulled up to VCC when the operating frequency is 50 MHz. When the operating frequency is 100 MHz then it should be pulled to ground. [see datasheet]", 52 XI_100 "External oscillator input. An external 98.304-MHz oscillator can drive the TSB14C01A.", 53 NC "Not connected.These terminals must be left floating.", 55 XI_50 "External oscillator input. An external 49.152-MHz oscillator can drive the TSB14C01A.", 56 NC "Not connected.These terminals must be left floating.", 58 TI1 (in) "Test input 1. TI1 is used for test purposes only and should be tied to ground for normal operation.", 63 RPREFIX (out) "Receiver prefix. When asserted high (enabled), RPREFIX alerts the receiver of an incoming packet. RPREFIX is for test and debug and is not used in normal operation."
part B pins: 3 VCC (power) "Circuit power", 5 VCC (power) "Circuit power", 7 GND (power) "Circuit ground", 9 VCC (power) "Circuit power", 12 GND (power) "Circuit ground", 17 VCC (power) "Circuit power", 26 GND (power) "Circuit ground", 34 VCC (power) "Circuit power", 36 GND (power) "Circuit ground", 38 GND (power) "Circuit ground", 41 VCC (power) "Circuit power", 49 GND (power) "Circuit ground", 51 GND (power) "Circuit ground", 54 GND (power) "Circuit ground", 57 VCC (power) "Circuit power", 59 VCC (power) "Circuit power", 60 GND (power) "Circuit ground", 61 VCC (power) "Circuit power", 62 VCC (power) "Circuit power", 64 GND (power) "Circuit ground"

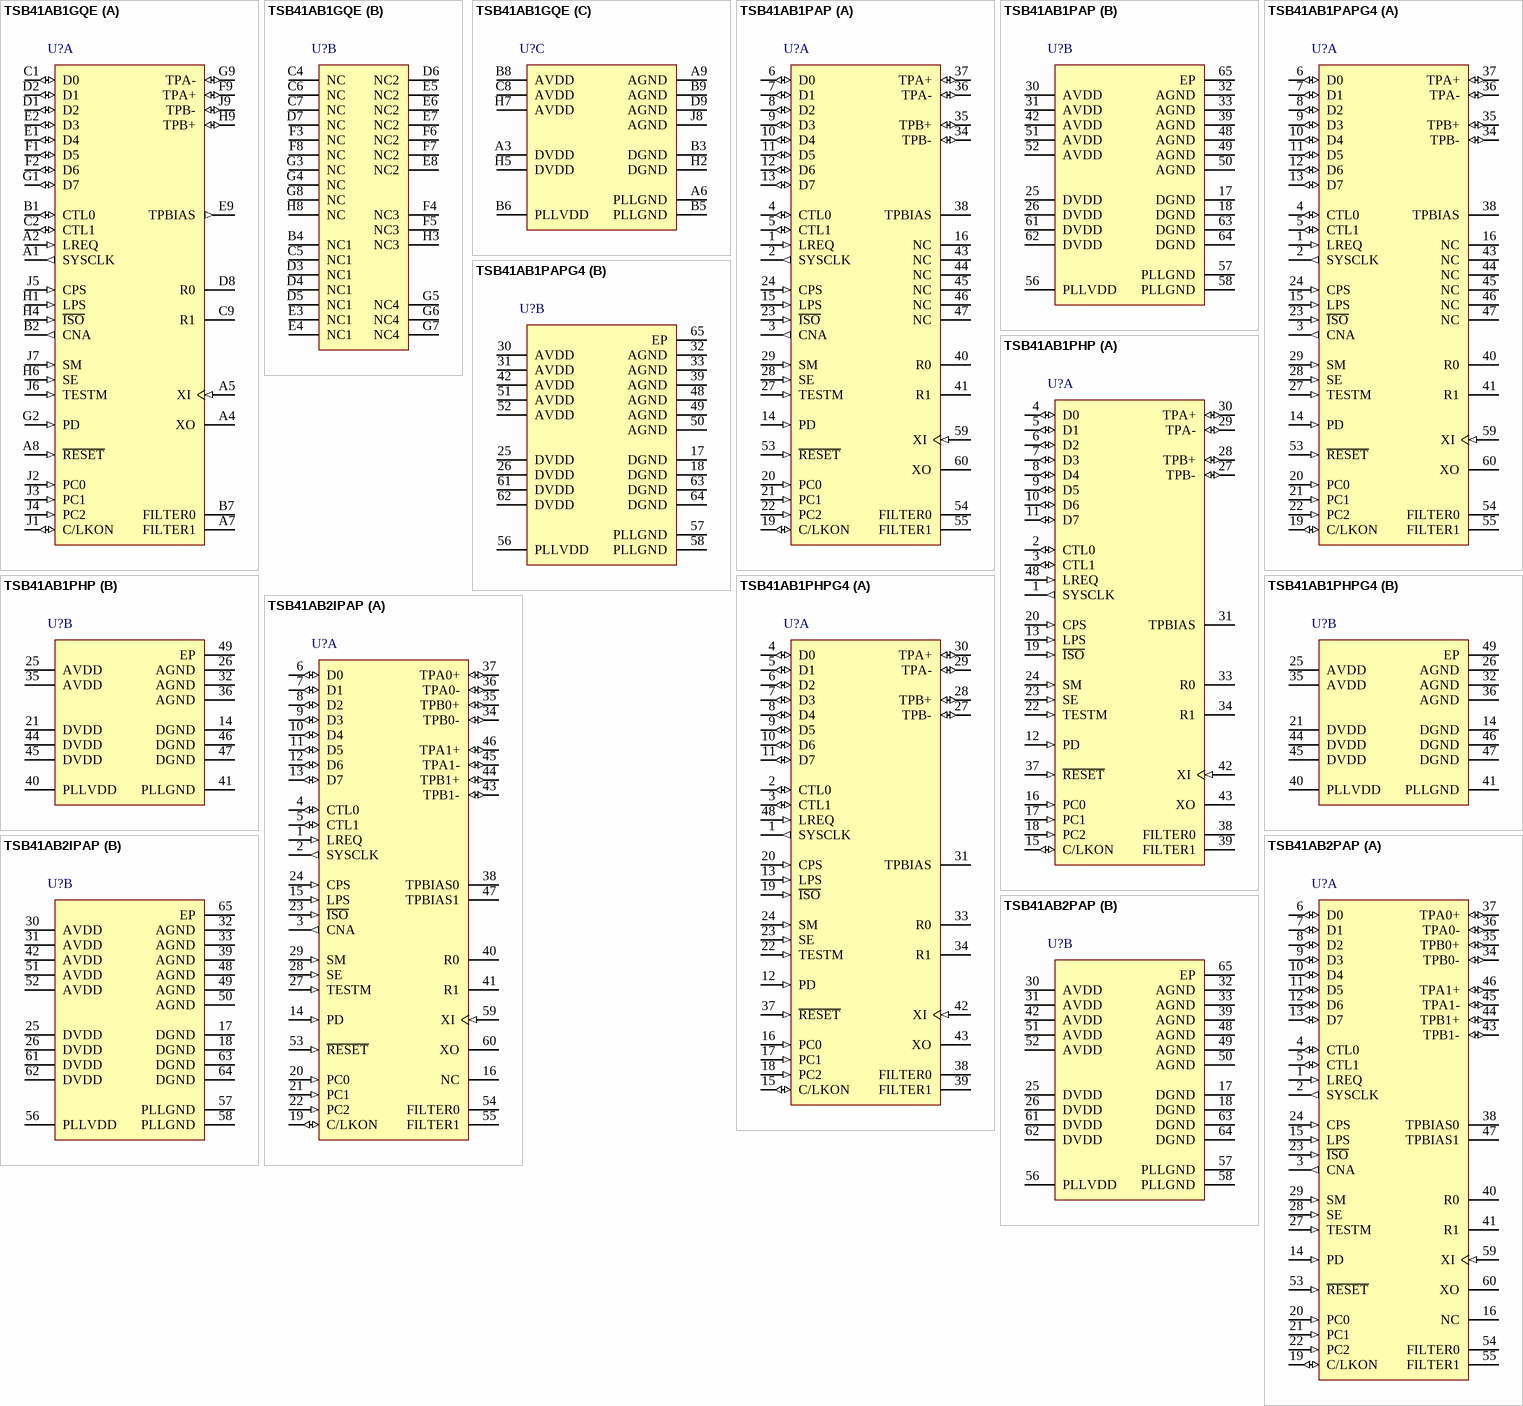
[diagram p1: symbols TSB41AB1GQE to TSB41AB2PAP]